# EAGLE library part CONNECTOR_20POL_FFC (library BA Parts)
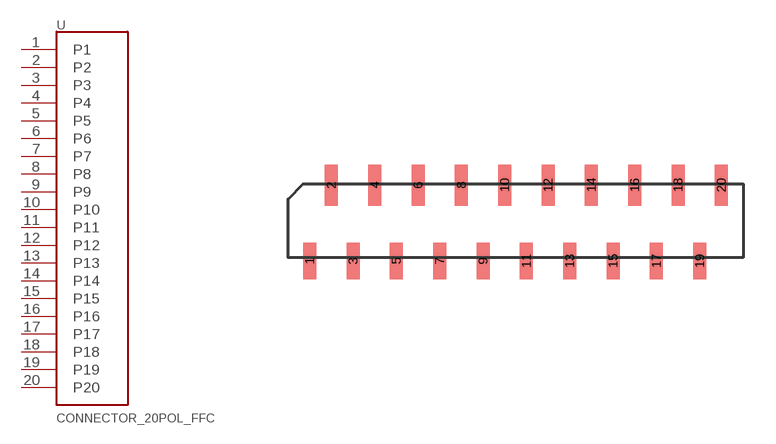
[diagram p1: symbol with the pads of 20POL_FFC_CONNECTOR; footprint 20POL_FFC_CONNECTOR]

Designator prefix -

## CONNECTOR_20POL_FFC  [20POL_FFC_CONNECTOR]
1  P1
2  P2
3  P3
4  P4
5  P5
6  P6
7  P7
8  P8
9  P9
10  P10
11  P11
12  P12
13  P13
14  P14
15  P15
16  P16
17  P17
18  P18
19  P19
20  P20

## Footprint 20POL_FFC_CONNECTOR (pad centres in mm)
smd 0.6 x 1.7: 1 0,-0.85; 3 2,-0.85; 5 4,-0.85; 7 6,-0.85; 9 8,-0.85; 11 10,-0.85; 13 12,-0.85; 15 14,-0.85; 17 16,-0.85; 19 18,-0.85
smd 0.6 x 1.9: 2 1,2.65; 4 3,2.65; 6 5,2.65; 8 7,2.65; 10 9,2.65; 12 11,2.65; 14 13,2.65; 16 15,2.65; 18 17,2.65; 20 19,2.65